# EAGLE library part CONN_15 (library LinnesLab-Connectors)
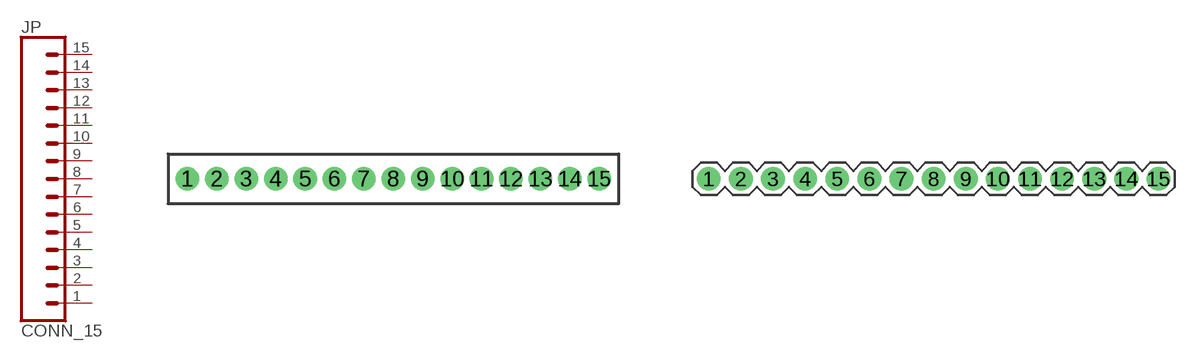
[diagram p21: symbol with the pads of 1X15_NO_SILK_50MIL; footprints 1X15_NO_SILK_50MIL, 1X15]

Designator prefix JP

## CONN_15-50MIL  [1X15_NO_SILK_50MIL]
1  1  pas
2  2  pas
3  3  pas
4  4  pas
5  5  pas
6  6  pas
7  7  pas
8  8  pas
9  9  pas
10  10  pas
11  11  pas
12  12  pas
13  13  pas
14  14  pas
15  15  pas

## CONN_15  [1X15]
Pads as for 1X15_NO_SILK_50MIL

## Footprint 1X15_NO_SILK_50MIL (pad centres in mm)
Plated Through Hole -14 Pin No Silk outline Specifications: Pin count:14 Pin pitch:0.1" Example device(s): CONN_14
drill 0.508 pad 1.016: 1 0,0; 2 1.27,0; 3 2.54,0; 4 3.81,0; 5 5.08,0; 6 6.35,0; 7 7.62,0; 8 8.89,0; 9 10.16,0; 10 11.43,0; 11 12.7,0; 12 13.97,0; 13 15.24,0; 14 16.51,0; 15 17.78,0

## Footprint 1X15 (pad centres in mm)
Plated Through Hole -16 Pin Specifications: Pin count:16 Pin pitch:0.1" Example device(s): CONN_16
drill 1.016 pad 1.88: 1 0,0; 2 2.54,0; 3 5.08,0; 4 7.62,0; 5 10.16,0; 6 12.7,0; 7 15.24,0; 8 17.78,0; 9 20.32,0; 10 22.86,0; 11 25.4,0; 12 27.94,0; 13 30.48,0; 14 33.02,0; 15 35.56,0